# EAGLE library part *555_LN2 (library Ln-linear)
TIMER
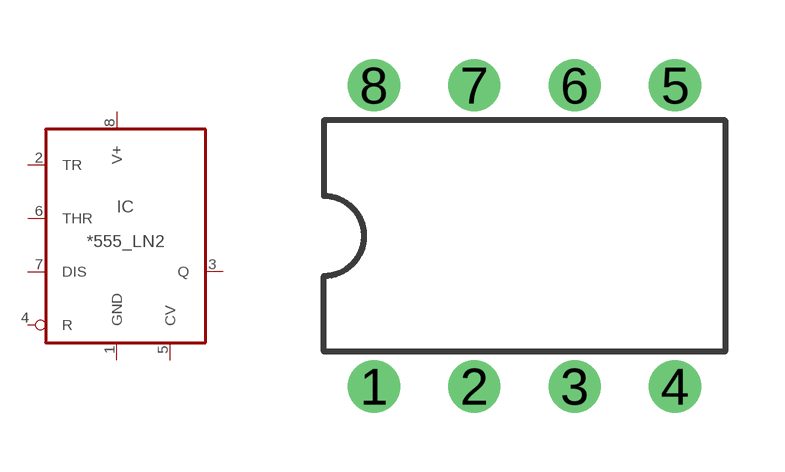
[diagram p106: symbol with the pads of DIL08; footprint DIL08]

Designator prefix IC

## LM555_LN2N, NE555_LN2N, SE555_LN2N, UA555_LN2N  [DIL08]
1  GND  pwr
2  TR  in
3  Q  out
4  R  in
5  CV  in
6  THR  in
7  DIS  in
8  V+  pwr

## Footprint DIL08 (pad centres in mm)
Dual In Line Package
drill 0.813 pad 1.27: 1 -3.81,-3.81; 2 -1.27,-3.81; 3 1.27,-3.81; 4 3.81,-3.81; 5 3.81,3.81; 6 1.27,3.81; 7 -1.27,3.81; 8 -3.81,3.81